# Altium schematic symbol library INDUCTOR_BLM18AG121SN1D.SchLib: 1 symbol
Pins are listed as number, name and electrical type; pins without a type are passive.

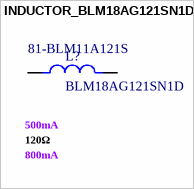
[diagram p0: symbol INDUCTOR_BLM18AG121SN1D]

## INDUCTOR_BLM18AG121SN1D
designator L?, comment BLM18AG121SN1D  .RMS Current (Irms): 800mA  .Value: 120Ω  .Max DC Current: 500mA  Supplier Part Number 1: 81-BLM11A121S
Ferrite Beads Multi-Layer 120Ohm 25% 100MHz 500mA 180mOhm DCR 0603 T/R; Manufacturer: Murata; DC Resistance (DCR): 180mΩ; Material: Ferrite, Steel; Number of Circuits: 1; Shielding: Unshielded; Supplier 1: Mouser; Manufacturer Part Number: BLM18AG121SN1D; RoHS: Compliant; Category: Ferrite Beads and Chips; Stock 1: 215952; Pricing 1: 1=0,1, 10=0,042, 50=0,032, 100=0,03, 1000=0,023, 10000=0,017 (USD); Case/Package: 0603; Case Code (Imperial): 0603; Case Code (Metric): 1608; Core Material: Ferrite; Current Rating: 500mA; DC Current: 500mA; Depth: 800µm; Frequency: 100MHz; Height: 800µm; Impedance: 120Ω; Lead Free: Lead Free; Length: 1.6mm; Lifecycle Status: Production; Max Current Rating: 500mA; Max DC Current: 500mA; Max Frequency: 100MHz; Max Operating Temperature: 125°C; Military Standard: Not; Min Operating Temperature: -55°C; Number of Lines: 1; Number of Pins: 2; Number of Terminals: 2; Packaging: Cut Tape; Radiation Hardening: No; REACH SVHC: Yes; Resistance: 180mΩ; RMS Current (Irms): 800mA; Schedule B: 8504500000, 8504500000|8504500000, 8504500000|8504500000|8504500000, 8504500000|8504500000|8504500000|8504500000; Series Resistance: 180mΩ; Termination: SMD/SMT; Test Frequency: 100MHz; Tolerance: 25%; Width: 800µm; ComponentLink1URL: https://datasheet.octopart.com:443/BLM18AG121SN1D-Murata-datasheet-180806579.pdf?src-supplier=IHS; ComponentLink1Description: https://datasheet.octopart.com:443/BLM18AG121SN1D-Murata-datasheet-180806579.pdf?src-supplier=IHS; ComponentLink2URL: https://datasheet.octopart.com:443/BLM18AG121SN1D-Murata-datasheet-113093508.pdf?src-supplier=Upverter; ComponentLink2Description: https://datasheet.octopart.com:443/BLM18AG121SN1D-Murata-datasheet-113093508.pdf?src-supplier=Upverter; ComponentLink3URL: https://datasheet.octopart.com:443/BLM18AG121SN1D-Murata-datasheet-11743096.pdf?src-supplier=Seeed+Studio; ComponentLink3Description: https://datasheet.octopart.com:443/BLM18AG121SN1D-Murata-datasheet-11743096.pdf?src-supplier=Seeed+Studio; ComponentLink4URL: https://datasheet.octopart.com:443/BLM18AG121SN1D-Murata-datasheet-5338592.pdf?src-supplier=element14+APAC; ComponentLink4Description: https://datasheet.octopart.com:443/BLM18AG121SN1D-Murata-datasheet-5338592.pdf?src-supplier=element14+APAC; ComponentLink5URL: https://datasheet.octopart.com:443/BLM18AG121SN1D-Murata-datasheet-511221.pdf?src-supplier=TME; ComponentLink5Description: https://datasheet.octopart.com:443/BLM18AG121SN1D-Murata-datasheet-511221.pdf?src-supplier=TME; ComponentLink6URL: https://datasheet.octopart.com:443/BLM18AG121SN1D-Murata-datasheet-135086654.pdf?src-supplier=TME; ComponentLink6Description: https://datasheet.octopart.com:443/BLM18AG121SN1D-Murata-datasheet-135086654.pdf?src-supplier=TME; ComponentLink7URL: https://datasheet.octopart.com:443/BLM18AG121SN1D-Murata-datasheet-5396529.pdf?src-supplier=Factory+Futures; ComponentLink7Description: https://datasheet.octopart.com:443/BLM18AG121SN1D-Murata-datasheet-5396529.pdf?src-supplier=Factory+Futures; ComponentLink8URL: https://datasheet.octopart.com:443/BLM18AG121SN1D-Murata-datasheet-41195.pdf?src-supplier=Farnell; ComponentLink8Description: https://datasheet.octopart.com:443/BLM18AG121SN1D-Murata-datasheet-41195.pdf?src-supplier=Farnell; ComponentLink9URL: https://datasheet.octopart.com:443/BLM18AG121SN1D-Murata-datasheet-141257893.pdf?src-supplier=Ciiva; ComponentLink9Description: https://datasheet.octopart.com:443/BLM18AG121SN1D-Murata-datasheet-141257893.pdf?src-supplier=Ciiva; ComponentLink10URL: https://datasheet.octopart.com:443/BLM18AG121SN1D-Murata-datasheet-138706751.pdf?src-supplier=Ciiva; ComponentLink10Description: https://datasheet.octopart.com:443/BLM18AG121SN1D-Murata-datasheet-138706751.pdf?src-supplier=Ciiva; ComponentLink11URL: https://datasheet.octopart.com:443/BLM18AG121SN1D-Murata-datasheet-62086279.pdf?src-supplier=Future+Electronics; ComponentLink11Description: https://datasheet.octopart.com:443/BLM18AG121SN1D-Murata-datasheet-62086279.pdf?src-supplier=Future+Electronics; ComponentLink12URL: https://datasheet.octopart.com/BLM18AG121SN1D-Murata-datasheet-37129980.pdf; ComponentLink12Description: https://datasheet.octopart.com/BLM18AG121SN1D-Murata-datasheet-37129980.pdf; ComponentLink13URL: https://datasheet.octopart.com:443/BLM18AG121SN1D-Murata-datasheet-5394615.pdf?src-supplier=Verical; ComponentLink13Description: https://datasheet.octopart.com:443/BLM18AG121SN1D-Murata-datasheet-5394615.pdf?src-supplier=Verical; ComponentLink14URL: https://datasheet.octopart.com:443/BLM18AG121SN1D-Murata-datasheet-7578051.pdf?src-supplier=Jameco; ComponentLink14Description: https://datasheet.octopart.com:443/BLM18AG121SN1D-Murata-datasheet-7578051.pdf?src-supplier=Jameco; ComponentLink15URL: http://sigma.octopart.com:80/reach_statement/Murata-company-16.pdf?src-supplier=Compliance+Statements; ComponentLink15Description: http://sigma.octopart.com:80/reach_statement/Murata-company-16.pdf?src-supplier=Compliance+Statements
footprint BLM18KG121TZ1D (Chip Inductor, 2-Leads, Body 1,60x0,80mm, IPC Medium Density)
pins: 1, 2